# EAGLE library part TRINKET (library myLib)
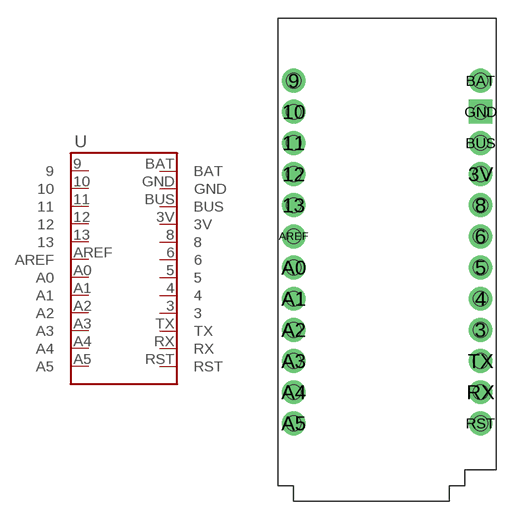
[diagram p0: symbol with the pads of TRINKET; footprint TRINKET]

Designator prefix -

## TRINKET  [TRINKET]
3  3
3V  3V
4  4
5  5
6  6
8  8
9  9
10  10
11  11
12  12
13  13
A0  A0
A1  A1
A2  A2
A3  A3
A4  A4
A5  A5
AREF  AREF
BAT  BAT
BUS  BUS
GND  GND
RST  RST
RX  RX
TX  TX

## Footprint TRINKET (pad centres in mm)
drill 1.3: 3 7.62,-6.35; 3V 7.62,6.35; 4 7.62,-3.81; 5 7.62,-1.27; 6 7.62,1.27; 8 7.62,3.81; 9 -7.62,13.97; 10 -7.62,11.43; 11 -7.62,8.89; 12 -7.62,6.35; 13 -7.62,3.81; A0 -7.62,-1.27; A1 -7.62,-3.81; A2 -7.62,-6.35; A3 -7.62,-8.89; A4 -7.62,-11.43; A5 -7.62,-13.97; AREF -7.62,1.27; BAT 7.62,13.97; BUS 7.62,8.89; RST 7.62,-13.97; RX 7.62,-11.43; TX 7.62,-8.89
drill 1.3 square: GND 7.62,11.43
hole 1.2 at -7.62,13.97
hole 1.2 at -7.62,11.43
hole 1.2 at -7.62,8.89
hole 1.2 at -7.62,6.35
hole 1.2 at -7.62,3.81
hole 1.2 at -7.62,1.27
hole 1.2 at -7.62,-1.27
hole 1.2 at -7.62,-3.81
hole 1.2 at -7.62,-6.35
hole 1.2 at -7.62,-8.89
hole 1.2 at -7.62,-11.43
hole 1.2 at -7.62,-13.97
hole 1.2 at 7.62,13.97
hole 1.2 at 7.62,11.43
hole 1.2 at 7.62,8.89
hole 1.2 at 7.62,6.35
hole 1.2 at 7.62,3.81
hole 1.2 at 7.62,1.27
hole 1.2 at 7.62,-1.27
hole 1.2 at 7.62,-3.81
hole 1.2 at 7.62,-6.35
hole 1.2 at 7.62,-6.35
hole 1.2 at 7.62,-8.89
hole 1.2 at 7.62,-11.43
hole 1.2 at 7.62,-13.97